# Altium integrated library Multiplexer.IntLib: 1 symbol
Pins are listed as number, name and electrical type; pins without a type are passive.

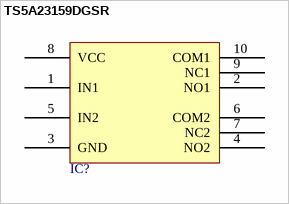
[diagram p0: symbol TS5A23159DGSR]

## TS5A23159DGSR
designator IC?  (value not drawn)
IC SWITCH DUAL SPDT 10MSOP; Manufacturer: Texas Instruments; Multiplexer/Demultiplexer Circuit: 2:1; Number of Circuits: 2; On-State Resistance (max): 900 mOhm; Channel-to-Channel Matching (Ron): 50 mOhm; Voltage - Supply, Single (V+): 1.65 V ~ 5.5 V; Switch Time (Ton, Toff) (Max): 13ns, 8ns; -3db Bandwidth: 100MHz; Channel Capacitance (CS(off), CD(off)): 18pF; Current - Leakage (IS(off)) (Max): 20nA; Part Number: TS5A23159DGSR; PartId: 16184; Supplier 1: Digi-Key; Supplier Part Number 1: 296-18598-1-ND; ComponentLink1Description: Datasheet; ComponentLink1URL: http://www.ti.com/lit/ds/symlink/ts5a23159.pdf; ComponentLink2Description: Digi-Key Listing; ComponentLink2URL: http://www.digikey.com/product-detail/en/texas-instruments/TS5A23159DGSR/296-18598-1-ND/862570; Price: 0.92; Operating Temperature: -40C ~ 85C (TA); Device Package: 10-TFSOP, 10-MSOP (0.118", 3.00mm Width); Switch Circuit: SPDT; Voltage - Supply, Dual (V): -
footprint TI MSOP-10 DGS
pins: 1 IN1, 2 NO1, 3 GND, 4 NO2, 5 IN2, 6 COM2, 7 NC2, 8 VCC, 9 NC1, 10 COM1